# EAGLE library part MPL115A2 (library pfo)
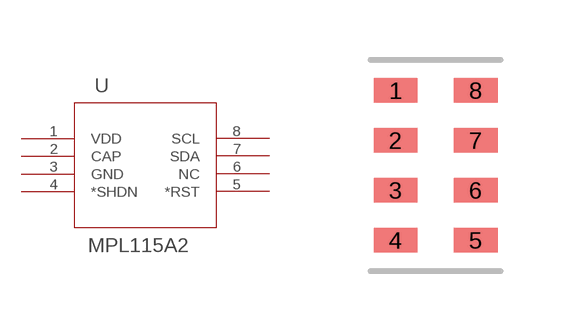
[diagram p1: symbol with the pads of LGA8; footprint LGA8]

Designator prefix U

## MPL115A2 (MANUFACTURER_PART_NUMBER: mpl115a2; VENDOR: Freescale)  [LGA8]
1  VDD  pwr
2  CAP  pas
3  GND  pwr
4  *SHDN  pas
5  *RST  pas
6  NC  pas
7  SDA
8  SCL  in

## Footprint LGA8 (pad centres in mm)
smd 1.092 x 0.61: 1 -1.003,1.875; 2 -1.003,0.625; 3 -1.003,-0.625; 4 -1.003,-1.875; 5 1.003,-1.875; 6 1.003,-0.625; 7 1.003,0.625; 8 1.003,1.875